# EAGLE library part SPV1050TTR (library SPV1050TTR)
STMICROELECTRONICS - SPV1050TTR - BATT CHARGER, LITHIUM, 0.07A, VFQFPN-20 Source: Datasheet <https://www.st.com/resource/en/datasheet/spv1050.pdf>
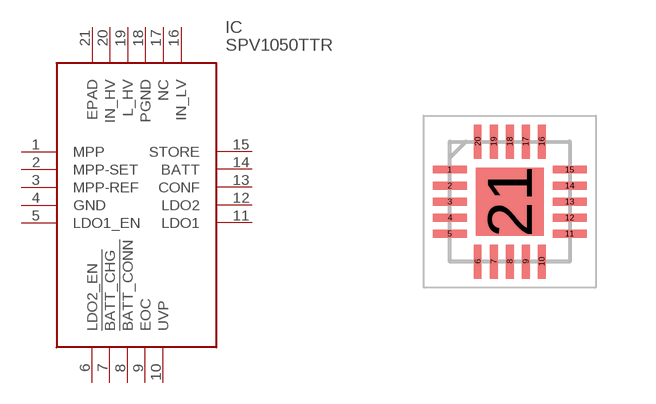
[diagram p0: symbol with the pads of QFN40P300X300X100-21N; footprint QFN40P300X300X100-21N]

Designator prefix IC

## SPV1050TTR (Description: STMICROELECTRONICS - SPV1050TTR - BATT CHARGER, LITHIUM, 0.07A, VFQFPN-20; Height: 1mm; Manufacturer_Name: STMicroelectronics; Manufacturer_Part_Number: SPV1050TTR; Mouser_Part_Number: 511-SPV1050TTR; Mouser_Price-Stock: https://www.mouser.co.uk/ProductDetail/STMicroelectronics/SPV1050TTR?qs=4b8myOmUP%252BtjnNFr7g4Yxw%3D%3D)  [QFN40P300X300X100-21N]
1  MPP
2  MPP-SET
3  MPP-REF
4  GND
5  LDO1_EN
6  LDO2_EN
7  !BATT_CHG
8  !BATT_CONN
9  EOC
10  UVP
11  LDO1
12  LDO2
13  CONF
14  BATT
15  STORE
16  IN_LV
17  NC  nc
18  PGND
19  L_HV
20  IN_HV
21  EPAD

## Footprint QFN40P300X300X100-21N (pad centres in mm)
VFQFPN-1
smd 0.85 x 0.2: 1 -1.5,0.8; 2 -1.5,0.4; 3 -1.5,0; 4 -1.5,-0.4; 5 -1.5,-0.8; 11 1.5,-0.8; 12 1.5,-0.4; 13 1.5,0; 14 1.5,0.4; 15 1.5,0.8
smd 0.2 x 0.85: 6 -0.8,-1.5; 7 -0.4,-1.5; 8 0,-1.5; 9 0.4,-1.5; 10 0.8,-1.5; 16 0.8,1.5; 17 0.4,1.5; 18 0,1.5; 19 -0.4,1.5; 20 -0.8,1.5
smd 1.7 x 1.7: 21 0,0